# Altium schematic symbol library Schlib1.SchLib: 57 symbols (part 2 of 2)
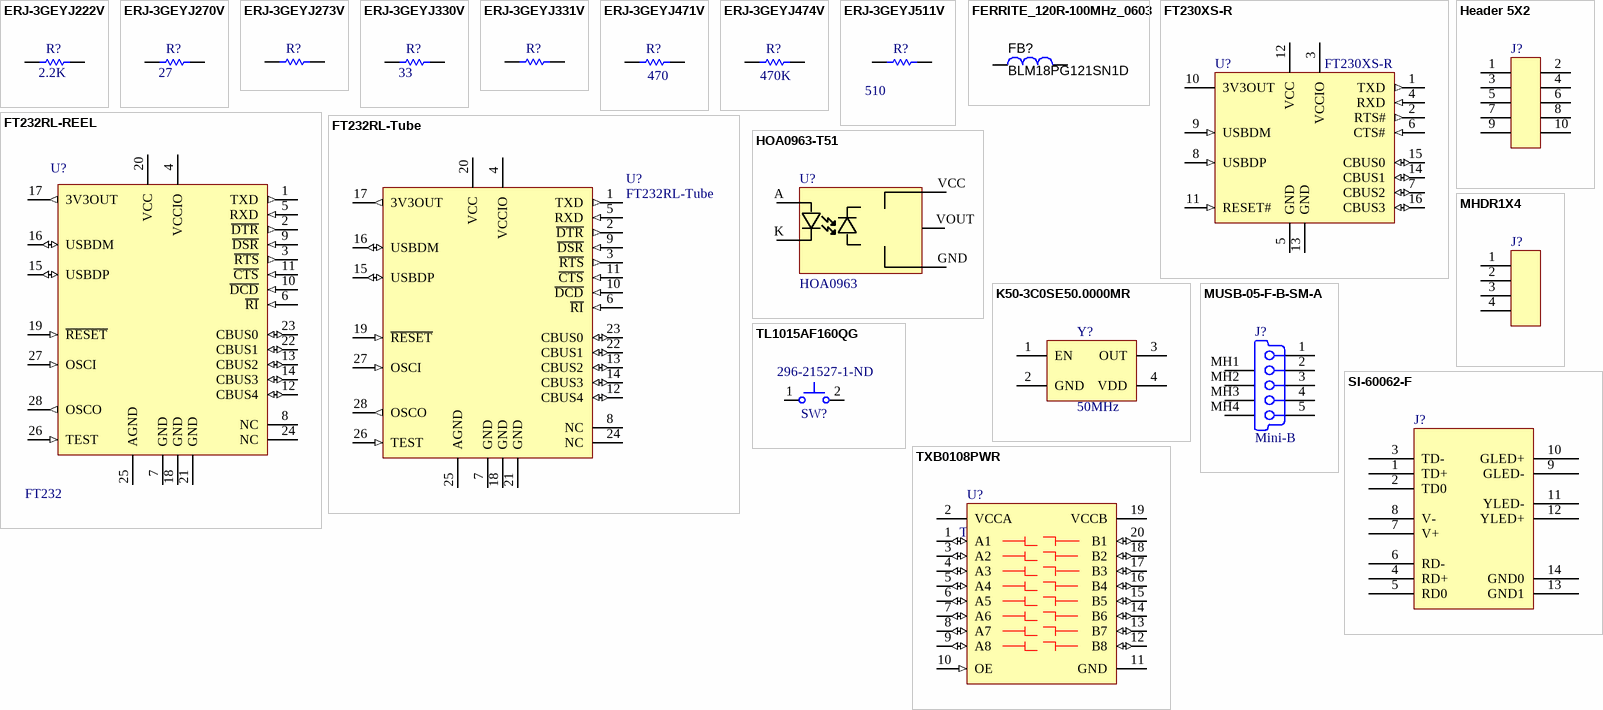
[diagram p2: symbols ERJ-3GEYJ222V to TXB0108PWR]

## FT232RL-REEL
designator U?, comment FT232
IC USB FS SERIAL UART 28-SSOP; Manufacturer: FTDI, Future Technology Devices International Ltd; Manufacturer Part Number: FT232RL-REEL; Function: Bridge, USB to UART; Standards: USB 2.0; Voltage - Supply: 3.3 V ~ 5.25 V; Current - Supply: 15mA; Supplier 1: Digi-Key; RoHS: RoHS Compliant; Category: Integrated Circuits (ICs); Stock 1: 42000; Pricing 1: 2000=2.65001, 4000=2.34999, 6000=2.175 (USD); Packaging: Tape & Reel (TR); Protocol: USB; Interface: UART; Operating Temperature: -40°C ~ 85°C; Package / Case: 28-SSOP (0.209", 5.30mm Width); Supplier Device Package: 28-SSOP; ComponentLink1URL: http://www.ftdichip.com/Support/Documents/DataSheets/ICs/DS_FT232R.pdf; ComponentLink1Description: http://www.ftdichip.com/Support/Documents/DataSheets/ICs/DS_FT232R.pdf; Supplier Part Number 1: 768-1007-2-ND; Value: FT232
footprint SSOP-28_N (SOP, 28-Leads, Body 10.2x5.3mm, Pitch 0.65mm, IPC Medium Density)
pins: 1 TXD (out), 2 ~{DTR} (out), 3 ~{RTS} (out), 4 VCCIO (power), 5 RXD (in), 6 ~{RI} (in), 7 GND (power), 8 NC, 9 ~{DSR} (in), 10 ~{DCD} (in), 11 ~{CTS} (in), 12 CBUS4 (io), 13 CBUS2 (io), 14 CBUS3 (io), 15 USBDP (io), 16 USBDM (io), 17 3V3OUT (out), 18 GND (power), 19 ~{RESET} (in), 20 VCC (power), 21 GND (power), 22 CBUS1 (io), 23 CBUS0 (io), 24 NC, 25 AGND (power), 26 TEST (in), 27 OSCI (in), 28 OSCO (out)

## FT232RL-Tube
designator U?
USB UART Asynchronous Serial Data Transfer Chip, 28-pin SSOP, Tube; Manufacturer: FTDI; DatasheetVersion: ver 2.10, Mar-2012; PackageVersion: Mar-12; PackageReference: SSOP-28; PackageDescription: 28-Pin Small Outline Package 0.65 mm Pitch; PartNumber: FT232RL-Tube; ComponentLink1Description: Manufacturer URL; ComponentLink1URL: http://www.ftdichip.com/; ComponentLink2Description: Datasheet; ComponentLink2URL: http://www.ftdichip.com/Support/Documents/DataSheets/ICs/DS_FT232R.pdf
footprint SSOP-28_N (SOP, 28-Leads, Body 10.2x5.3mm, Pitch 0.65mm, IPC Medium Density)
footprint SSOP-28_L (SOP, 28-Leads, Body 10.2x5.3mm, Pitch 0.65mm, IPC High Density)
footprint SSOP-28_M (SOP, 28-Leads, Body 10.2x5.3mm, Pitch 0.65mm, IPC Low Density)
pins: 1 TXD (out), 2 ~{DTR} (out), 3 ~{RTS} (out), 4 VCCIO (power), 5 RXD (in), 6 ~{RI} (in), 7 GND (power), 8 NC, 9 ~{DSR} (in), 10 ~{DCD} (in), 11 ~{CTS} (in), 12 CBUS4 (io), 13 CBUS2 (io), 14 CBUS3 (io), 15 USBDP (io), 16 USBDM (io), 17 3V3OUT (out), 18 GND (power), 19 ~{RESET} (in), 20 VCC (power), 21 GND (power), 22 CBUS1 (io), 23 CBUS0 (io), 24 NC, 25 AGND (power), 26 TEST (in), 27 OSCI (in), 28 OSCO (out)

## Header 5X2
designator J?
Header, 5-Pin, Dual row; LatestRevisionDate: 17-Jul-2002; LatestRevisionNote: Re-released for DXP Platform.; Publisher: Altium Limited
footprint HDR2X5 (Connector; Header; 5x2 Position)
signal-integrity model Connector
pins: 1, 2, 3, 4, 5, 6, 7, 8, 9, 10

## HOA0963-T51
designator U?, comment HOA0963
SENSOR DIGITAL SLOT OPTOSCHMITT; Manufacturer: Honeywell Sensing and Control; Manufacturer Part Number: HOA0963-T51; Sensing Distance: 0.125" (3.18mm); Sensing Method: Transmissive; Output Configuration: NPN - Open Collector, Inverted; Current - Supply: 12mA; Voltage - Supply: 4.5 V ~ 10 V; Response Time: 60ns, 15ns; Supplier 1: Digi-Key; RoHS: RoHS Compliant; Category: Sensors, Transducers; Stock 1: 271; Pricing 1: 1=7.08, 10=4.845, 25=4.3588, 50=4.0804, 100=3.8539, 250=3.6108, 500=3.45504, 1000=3.32052, 2500=3.1624 (USD); Mounting Type: Through Hole; Package / Case: PCB Mount; ComponentLink1URL: http://media.digikey.com/pdf/Data%20Sheets/Honeywell%20Sensing%20&%20Control%20PDFs/HOA096X-HOA097X.pdf; ComponentLink1Description: http://media.digikey.com/pdf/Data%20Sheets/Honeywell%20Sensing%20&%20Control%20PDFs/HOA096X-HOA097X.pdf; Supplier Part Number 1: 480-3553-ND; Value: HOA0963
footprint HOA0-963-T51
pins: A, GND, K, VCC, VOUT

## K50-3C0SE50.0000MR
designator Y?, comment 50MHz
OSC XO 50.000MHZ CMOS SMD; Manufacturer: AVX Corp/Kyocera Corp; Manufacturer Part Number: K50-3C0SE50.0000MR; Function: Tri-State (Output Enable); Voltage - Supply: 3.3V; Frequency Stability: ±50ppm; Current - Supply (Max): 20mA; Current - Supply (Disable) (Max): 15mA; Supplier 1: Digi-Key; RoHS: RoHS Compliant; Category: Crystals and Oscillators; Stock 1: 2296; Pricing 1: 1=3.6, 10=3.2, 100=2.8, 250=2.3, 500=2 (USD); Packaging: Cut Tape (CT); Type: XO (Standard); Frequency: 50MHz; Output: CMOS; Operating Temperature: -10°C ~ 70°C; Ratings: -; Mounting Type: Surface Mount; Size / Dimension: 0.276" L x 0.197" W (7.00mm x 5.00mm); Height: 0.063" (1.60mm); Package / Case: 4-SMD, No Lead (DFN, LCC); ComponentLink1URL: http://global.kyocera.com/prdct/electro/pdf/clock/not5_e.pdf; ComponentLink1Description: http://global.kyocera.com/prdct/electro/pdf/clock/not5_e.pdf; Supplier Part Number 1: 478-2090-1-ND; Value: 50MHz
footprint K50-3C
pins: 1 EN, 2 GND, 3 OUT, 4 VDD

## MHDR1X4
designator J?
Header, 4-Pin; LatestRevisionDate: 17-Jul-2002; LatestRevisionNote: Re-released for DXP Platform.; Publisher: Altium Limited
footprint HDR1X4 (Connector; Header; 4 Position)
signal-integrity model Connector
pins: 1, 2, 3, 4

## MUSB-05-F-B-SM-A
designator J?, comment Mini-B
CONN RECEPT USB MINI B SMD R/A; Manufacturer: Samtec Inc; Manufacturer Part Number: MUSB-05-F-B-SM-A; Connector Type: USB - mini B; Number of Contacts: 5; Gender: Receptacle; Specifications: USB 2.0; Supplier 1: Digi-Key; RoHS: RoHS Compliant; Category: Connectors, Interconnects; Stock 1: 0; Pricing 1: 1=1.14 (USD); Packaging: Tray; Mounting Type: Surface Mount, Right Angle, Horizontal; Features: Board Guide, Solder Retention; Ingress Protection: -; ComponentLink1URL: http://www.samtec.com/documents/webfiles/cpdf/MUSB-05-X-B-SM-A-X-XX-mkt.pdf; ComponentLink1Description: http://www.samtec.com/documents/webfiles/cpdf/MUSB-05-X-B-SM-A-X-XX-mkt.pdf; Supplier 2: Digi-Key; Supplier Part Number 1: MUSB-05-F-B-SM-A-ND; Supplier Part Number 2: P10KGCT-ND; Value: Mini-B
footprint MUSB-05-X-B-SM-A
pins: 1 V BUS (5V) "USB Vcc [Red]", 2 D- "USB Data - [White]", 3 D+ "USB Data + [Green]", 4 NC "Not Connected (or joined to pin 5 via resistor)", 5 GND "Ground [Black]", MH1 Tab "Shell", MH2 Tab "Shell", MH3 Tab "Shell", MH4 Tab "Shell"

## SI-60062-F
designator J?  (value not drawn)
CONN MAGJACK 1PORT 100 BASE-T; Manufacturer: Stewart Connector; Manufacturer Part Number: SI-60062-F; Connector Type: RJ45; Number of Ports: 1; LED Color: Yellow - Green; Number of Cores per Jack: 4; Shielding: Shielded, EMI Finger; Tab Direction: Down; Shield Material: Copper Alloy; Supplier 1: Digi-Key; RoHS: RoHS Compliant; Category: Connectors, Interconnects; Stock 1: 0; Pricing 1: 1=5.57, 25=5.22, 100=4.785, 250=4.35, 500=3.48, 1000=3.132 (USD); Packaging: Tray; Number of Rows: 1; Applications: 10/100 Base-T, AutoMDIX; Mounting Type: Through Hole; Orientation: 90° Angle (Right); Termination: Solder; Height Above Board: 0.545" (13.84mm); Features: Board Guide; Contact Material: Copper Alloy; Contact Finish: Gold; Contact Finish Thickness: 50µin (1.27µm); Housing Material: Thermoplastic; Operating Temperature: -; ComponentLink1URL: http://belfuse.com/pdfs/SI-60062-F.pdf; ComponentLink1Description: http://belfuse.com/pdfs/SI-60062-F.pdf; Supplier Part Number 1: 380-1106-ND
footprint ETHERNET_CONN
pins: 1 TD+, 2 TD0, 3 TD-, 4 RD+, 5 RD0, 6 RD-, 7 V+, 8 V-, 9 GLED-, 10 GLED+, 11 YLED-, 12 YLED+, 13 GND1, 14 GND0

## TL1015AF160QG
designator SW?  Supplier Part Number 2: 296-21527-1-ND
SWITCH TACTILE SPST-NO 0.05A 12V; Manufacturer: E-Switch; Manufacturer Part Number: TL1015AF160QG; Switch Function: Off-Mom; Contact Rating @ Voltage: 0.05A @ 12VDC; Actuator Type: Standard; Actuator Height off PCB, from Pins: 2.00mm; Actuator Orientation: Top Actuated; Outline: 3.90mm x 2.90mm; Illumination: Non-Illuminated; Operating Force: 160gf; Actuator Material: Polyamide (PA46), Nylon 4/6; Switch Travel: 0.20mm; Mechanical Life: 200,000 Cycles; Supplier 1: Digi-Key; RoHS: RoHS Compliant; Category: Switches; Stock 1: 25937; Pricing 1: 1=0.9, 10=0.872, 25=0.8224, 50=0.7236, 100=0.6578, 250=0.62492, 500=0.60846, 1000=0.47691 (USD); Packaging: Cut Tape (CT); Circuit: SPST-NO; Mounting Type: Surface Mount; Termination Style: Gull Wing; Illumination Voltage (Nominal): -; Illumination Type, Color: -; Ingress Protection: -; Features: -; Operating Temperature: -20°C ~ 70°C; ComponentLink1URL: http://spec.e-switch.com/P-J/P420000C.pdf; ComponentLink1Description: http://spec.e-switch.com/P-J/P420000C.pdf; Supplier Part Number 1: EG4344CT-ND; Supplier 2: Digi-Key
footprint TL1015_TACT_SWITCH
pins: 1, 2

## TXB0108PWR
designator U?
IC 8-BIT TRNSTR 15KV ESD 20TSSOP; Manufacturer: Texas Instruments; Logic Function: Translator, Bidirectional; Number of Bits: 8; Input Type: Logic; Data Rate: 100Mbps; Number of Outputs/Channel: 1; Differential - Input:Output: No/No; Propagation Delay (Max): 4ns; Voltage - Supply: 1.2 V ~ 3.6 V, 1.65 V ~ 5.5 V; Supplier 1: Digi-Key; Manufacturer Part Number: TXB0108PWR; RoHS: RoHS Compliant; Category: Integrated Circuits (ICs); Stock 1: 6271; Pricing 1: 1=2.3, 10=2.074, 25=1.8576, 100=1.6704, 250=1.4832, 500=1.296, 750=1.1736, 1000=0.9 (USD); Packaging: Cut Tape (CT); Output Type: Logic; Number of Channels: 8; Operating Temperature: -40°C ~ 85°C; Package / Case: 20-TSSOP (0.173", 4.40mm Width); Supplier Device Package: 20-TSSOP; Mounting Type: Surface Mount; ComponentLink1URL: http://www.ti.com/lit/ds/symlink/txb0108.pdf; ComponentLink1Description: http://www.ti.com/lit/ds/symlink/txb0108.pdf; Supplier Part Number 1: 296-21527-1-ND; Value: TXB0108PWR
footprint TSSOP-20
pins: 1 A1 (io) "Configurable CBUS I/O Pin. Function of this pin is configured in the device MTP memory. The default configuration is TXDEN.", 2 VCCA (power) "5 V (or 3V3) supply to IC.", 3 A2 (io) "Configurable CBUS I/O Pin. Function of this pin is configured in the device MTP memory. The default configuration is RXLED#.", 4 A3 (io) "Configurable CBUS I/O Pin. Function of this pin is configured in the device MTP memory. The default configuration is TXLED#.", 5 A4 (io) "Configurable CBUS I/O Pin. Function of this pin is configured in the device MTP memory. The default configuration is SLEEP#.", 6 A5 (io) "Configurable CBUS I/O Pin. Function of this pin is configured in the device MTP memory. The default configuration is TXDEN.", 7 A6 (io) "Configurable CBUS I/O Pin. Function of this pin is configured in the device MTP memory. The default configuration is RXLED#.", 8 A7 (io) "Configurable CBUS I/O Pin. Function of this pin is configured in the device MTP memory. The default configuration is TXLED#.", 9 A8 (io) "Configurable CBUS I/O Pin. Function of this pin is configured in the device MTP memory. The default configuration is SLEEP#.", 10 OE (in) "Receiving Asynchronous Data Input.", 11 GND (power) "1V8 -3V3 supply for the IO cells.", 12 B8 (io) "Configurable CBUS I/O Pin. Function of this pin is configured in the device MTP memory. The default configuration is SLEEP#.", 13 B7 (io) "Configurable CBUS I/O Pin. Function of this pin is configured in the device MTP memory. The default configuration is TXLED#.", 14 B6 (io) "Configurable CBUS I/O Pin. Function of this pin is configured in the device MTP memory. The default configuration is RXLED#.", 15 B5 (io) "Configurable CBUS I/O Pin. Function of this pin is configured in the device MTP memory. The default configuration is TXDEN.", 16 B4 (io) "Configurable CBUS I/O Pin. Function of this pin is configured in the device MTP memory. The default configuration is SLEEP#.", 17 B3 (io) "Configurable CBUS I/O Pin. Function of this pin is configured in the device MTP memory. The default configuration is TXLED#.", 18 B2 (io) "Configurable CBUS I/O Pin. Function of this pin is configured in the device MTP memory. The default configuration is RXLED#.", 19 VCCB (power) "1V8 -3V3 supply for the IO cells.", 20 B1 (io) "Configurable CBUS I/O Pin. Function of this pin is configured in the device MTP memory. The default configuration is TXDEN."